# Altium schematic symbol library UJ20-C-H-G-SMT-TR.SchLib: 1 symbol
Pins are listed as number, name and electrical type; pins without a type are passive.

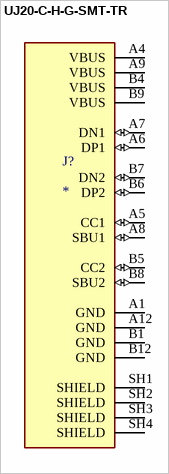
[diagram p0: symbol UJ20-C-H-G-SMT-TR]

## UJ20-C-H-G-SMT-TR
designator J?
Type C, USB 2.0, 480 Mbps, 20 Vdc, 5 A, Right Angle, Gold Flash, Surface Mount, Black Insulator, USB Receptacle; MF: CUI Devices; MP: UJ20-C-H-G-SMT-TR; SnapEDA_Link: https://www.snapeda.com/parts/UJ20-C-H-G-SMT-TR/CUI+Devices/view-part/?ref=snap; Package: None; Value: *; CUI_purchase_URL: https://www.cuidevices.com/product/interconnect/connectors/usb-connectors/uj20-c-h-g-smt-tr?utm_source=snapeda.com&utm_medium=referral&utm_campaign=snapedaBOM; Check_prices: https://www.snapeda.com/parts/UJ20-C-H-G-SMT-TR/CUI+Devices/view-part/?ref=eda
footprint CUI_UJ20-C-H-G-SMT-TR
pins: A1 GND (power), A4 VBUS (power), A5 CC1 (io), A6 DP1 (io), A7 DN1 (io), A8 SBU1 (io), A9 VBUS (power), A12 GND (power), B1 GND (power), B4 VBUS (power), B5 CC2 (io), B6 DP2 (io), B7 DN2 (io), B8 SBU2 (io), B9 VBUS (power), B12 GND (power), SH1 SHIELD, SH2 SHIELD, SH3 SHIELD, SH4 SHIELD